# Altium footprint library SGTL5000XNLA3.PcbLib: 1 footprints
Each footprint in its own frame and in the unit in brackets; x right, y up, seen from the top. Pads: shape width x height; smd on the part's side, far side on the other; paste and mask are expansions set on the pad; w line width, h text height; cw(c..) or ccw(c..) is an arc to the next point about the centre after c.
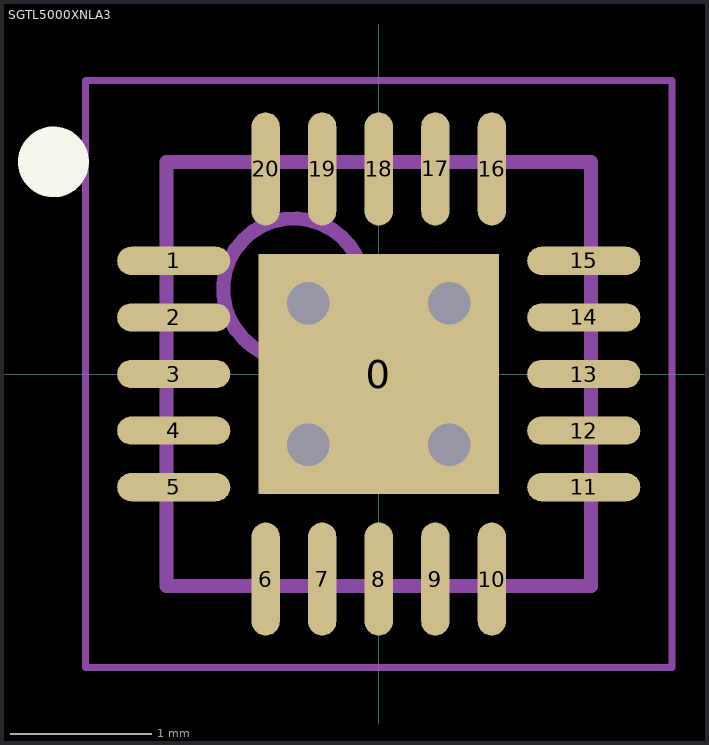
[diagram p0: the footprint, top view; thin cyan lines are the x and y axes]

## SGTL5000XNLA3 [mm] "NXP SGTL5000XNLA3 I2C Codec /  / QFN, 20-Leads, Body 3.00x3.00mm, Pitch 0.40mm, Thermal Pad 1.70x1.70mm, IPC Medium Density"
height 0.6
pads (21):
  rect 1.7x1.7 smd paste-0.139 mask+0.05: 0(0,0)
  oval 0.8x0.2 smd mask+0.05: 1(-1.45,0.8) 2(-1.45,0.4) 3(-1.45,0) 4(-1.45,-0.4) 5(-1.45,-0.8) 11(1.45,-0.8) 12(1.45,-0.4) 13(1.45,0) 14(1.45,0.4) 15(1.45,0.8)
  oval 0.2x0.8 smd mask+0.05: 6(-0.8,-1.45) 7(-0.4,-1.45) 8(0,-1.45) 9(0.4,-1.45) 10(0.8,-1.45) 16(0.8,1.45) 17(0.4,1.45) 18(0,1.45) 19(-0.4,1.45) 20(-0.8,1.45)
via -0.5,0.5 diameter 0.6 hole 0.3
via 0.5,0.5 diameter 0.6 hole 0.3
via -0.5,-0.5 diameter 0.6 hole 0.3
via 0.5,-0.5 diameter 0.6 hole 0.3
Top Overlay:
  circle w0.25: c-2.3,1.5 r0.125
Mechanical 13:
  circle w0.1: c-0.6,0.6 r0.5
  lines w0.1: -1.5,-1.5 -1.5,1.5 1.5,1.5 1.5,-1.5 -1.5,-1.5
Mechanical 15:
  lines w0.05: -2.075,-2.075 -2.075,2.075 2.075,2.075 2.075,-2.075 -2.075,-2.075
  lines w0.1: -0.5,0 0.5,0 ; 0,-0.5 0,0.5
3D body: height 0.6, standoff 0.05, extent -1.5,-1.5 1.5,1.5